# Altium footprint library Varistor.PcbLib: 102 footprints (part 6 of 7)
Each footprint in its own frame and in the unit in brackets; x right, y up, seen from the top. Pads: shape width x height; smd on the part's side, far side on the other; paste and mask are expansions set on the pad; w line width, h text height; cw(c..) or ccw(c..) is an arc to the next point about the centre after c.
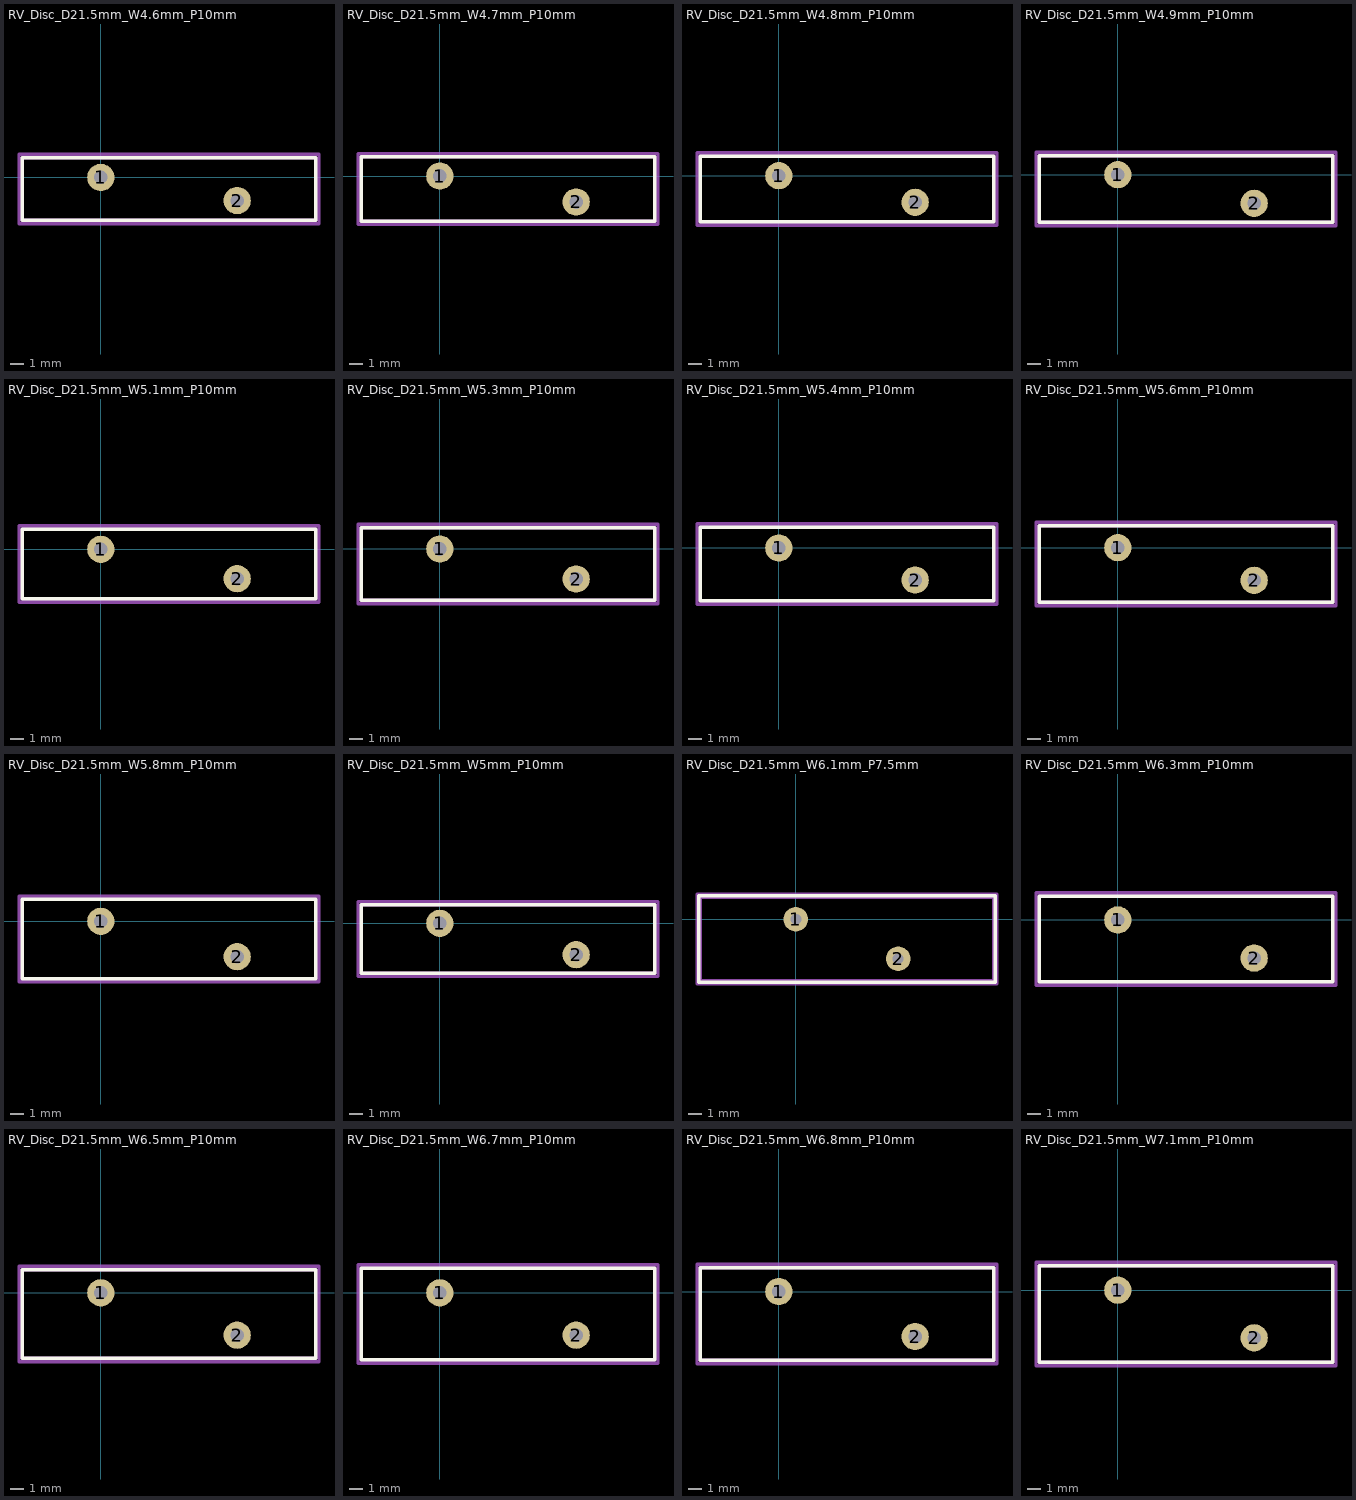
[diagram p5: the footprints below, top view; thin cyan lines are the x and y axes]

## RV_Disc_D21.5mm_W4.6mm_P10mm [mm]
pads (2):
  round 2 hole 1: 1(0,0) 2(10,-1.7)
F.SilkS:
  lines w0.254: -5.75,-3.15 -5.75,1.45 15.75,1.45 15.75,-3.15 -5.75,-3.15
F.Fab:
  lines w0.254: -5.75,-3.15 -5.75,1.45 15.75,1.45 15.75,-3.15 -5.75,-3.15
  text "'.Designator'" at 0.953,-1.69 h1
F.CrtYd:
  lines w0.254: -6,-3.4 -6,1.7 16,1.7 16,-3.4 -6,-3.4
3D body "RV_Disc_D21.5mm_W4.6mm_P10mm.step": height 21.53, standoff -3, extent -5.75,-3.15 15.75,1.45

## RV_Disc_D21.5mm_W4.7mm_P10mm [mm]
pads (2):
  round 2 hole 1: 1(0,0) 2(10,-1.9)
F.SilkS:
  lines w0.254: -5.75,-3.3 -5.75,1.4 15.75,1.4 15.75,-3.3 -5.75,-3.3
F.Fab:
  lines w0.254: -5.75,-3.3 -5.75,1.4 15.75,1.4 15.75,-3.3 -5.75,-3.3
  text "'.Designator'" at 0.953,-1.79 h1
F.CrtYd:
  lines w0.254: -6,-3.55 -6,1.65 16,1.65 16,-3.55 -6,-3.55
3D body "RV_Disc_D21.5mm_W4.7mm_P10mm.step": height 21.53, standoff -3, extent -5.75,-3.3 15.75,1.4

## RV_Disc_D21.5mm_W4.8mm_P10mm [mm]
pads (2):
  round 2 hole 1: 1(0,0) 2(10,-1.95)
F.SilkS:
  lines w0.254: -5.75,-3.375 -5.75,1.425 15.75,1.425 15.75,-3.375 -5.75,-3.375
F.Fab:
  lines w0.254: -5.75,-3.375 -5.75,1.425 15.75,1.425 15.75,-3.375 -5.75,-3.375
  text "'.Designator'" at 0.953,-1.815 h1
F.CrtYd:
  lines w0.254: -6,-3.63 -6,1.68 16,1.68 16,-3.63 -6,-3.63
3D body "RV_Disc_D21.5mm_W4.8mm_P10mm.step": height 21.53, standoff -3, extent -5.75,-3.375 15.75,1.425

## RV_Disc_D21.5mm_W4.9mm_P10mm [mm]
pads (2):
  round 2 hole 1: 1(0,0) 2(10,-2.1)
F.SilkS:
  lines w0.254: -5.75,-3.5 -5.75,1.4 15.75,1.4 15.75,-3.5 -5.75,-3.5
F.Fab:
  lines w0.254: -5.75,-3.5 -5.75,1.4 15.75,1.4 15.75,-3.5 -5.75,-3.5
  text "'.Designator'" at 0.953,-1.89 h1
F.CrtYd:
  lines w0.254: -6,-3.75 -6,1.65 16,1.65 16,-3.75 -6,-3.75
3D body "RV_Disc_D21.5mm_W4.9mm_P10mm.step": height 21.53, standoff -3, extent -5.75,-3.5 15.75,1.4

## RV_Disc_D21.5mm_W5.1mm_P10mm [mm]
pads (2):
  round 2 hole 1: 1(0,0) 2(10,-2.15)
F.SilkS:
  lines w0.254: -5.75,-3.625 15.75,-3.625 15.75,1.475 -5.75,1.475 -5.75,-3.625
F.Fab:
  lines w0.254: -5.75,-3.625 15.75,-3.625 15.75,1.475 -5.75,1.475 -5.75,-3.625
  text "'.Designator'" at 0.953,-1.915 h1
F.CrtYd:
  lines w0.254: -6,-3.88 16,-3.88 16,1.73 -6,1.73 -6,-3.88
3D body "RV_Disc_D21.5mm_W5.1mm_P10mm.step": height 21.53, standoff -3, extent -5.75,-3.625 15.75,1.475

## RV_Disc_D21.5mm_W5.3mm_P10mm [mm]
pads (2):
  round 2 hole 1: 1(0,0) 2(10,-2.2)
F.SilkS:
  lines w0.254: -5.75,-3.75 -5.75,1.55 15.75,1.55 15.75,-3.75 -5.75,-3.75
F.Fab:
  lines w0.254: -5.75,-3.75 -5.75,1.55 15.75,1.55 15.75,-3.75 -5.75,-3.75
  text "'.Designator'" at 0.953,-1.94 h1
F.CrtYd:
  lines w0.254: -6,-4 -6,1.8 16,1.8 16,-4 -6,-4
3D body "RV_Disc_D21.5mm_W5.3mm_P10mm.step": height 21.53, standoff -3, extent -5.75,-3.75 15.75,1.55

## RV_Disc_D21.5mm_W5.4mm_P10mm [mm]
pads (2):
  round 2 hole 1: 1(0,0) 2(10,-2.35)
F.SilkS:
  lines w0.254: -5.75,-3.875 -5.75,1.525 15.75,1.525 15.75,-3.875 -5.75,-3.875
F.Fab:
  lines w0.254: -5.75,-3.875 -5.75,1.525 15.75,1.525 15.75,-3.875 -5.75,-3.875
  text "'.Designator'" at 0.953,-2.015 h1
F.CrtYd:
  lines w0.254: -6,-4.13 -6,1.78 16,1.78 16,-4.13 -6,-4.13
3D body "RV_Disc_D21.5mm_W5.4mm_P10mm.step": height 21.53, standoff -3, extent -5.75,-3.875 15.75,1.525

## RV_Disc_D21.5mm_W5.6mm_P10mm [mm]
pads (2):
  round 2 hole 1: 1(0,0) 2(10,-2.4)
F.SilkS:
  lines w0.254: -5.75,-4 -5.75,1.6 15.75,1.6 15.75,-4 -5.75,-4
F.Fab:
  lines w0.254: -5.75,-4 -5.75,1.6 15.75,1.6 15.75,-4 -5.75,-4
  text "'.Designator'" at 0.953,-2.04 h1
F.CrtYd:
  lines w0.254: -6,-4.25 -6,1.85 16,1.85 16,-4.25 -6,-4.25
3D body "RV_Disc_D21.5mm_W5.6mm_P10mm.step": height 21.53, standoff -3, extent -5.75,-4 15.75,1.6

## RV_Disc_D21.5mm_W5.8mm_P10mm [mm]
pads (2):
  round 2 hole 1: 1(0,0) 2(10,-2.6)
F.SilkS:
  lines w0.254: -5.75,-4.2 -5.75,1.6 15.75,1.6 15.75,-4.2 -5.75,-4.2
F.Fab:
  lines w0.254: -5.75,-4.2 -5.75,1.6 15.75,1.6 15.75,-4.2 -5.75,-4.2
  text "'.Designator'" at 0.953,-2.14 h1
F.CrtYd:
  lines w0.254: -6,-4.45 -6,1.85 16,1.85 16,-4.45 -6,-4.45
3D body "RV_Disc_D21.5mm_W5.8mm_P10mm.step": height 21.53, standoff -3, extent -5.75,-4.2 15.75,1.6

## RV_Disc_D21.5mm_W5mm_P10mm [mm]
pads (2):
  round 2 hole 1: 1(0,0) 2(10,-2.3)
F.SilkS:
  lines w0.254: -5.75,-3.65 -5.75,1.35 15.75,1.35 15.75,-3.65 -5.75,-3.65
F.Fab:
  lines w0.254: -5.75,-3.65 -5.75,1.35 15.75,1.35 15.75,-3.65 -5.75,-3.65
  text "'.Designator'" at 0.953,-1.99 h1
F.CrtYd:
  lines w0.254: -6,-3.9 -6,1.6 16,1.6 16,-3.9 -6,-3.9
3D body "RV_Disc_D21.5mm_W5mm_P10mm.step": height 21.53, standoff -3, extent -5.75,-3.65 15.75,1.35

## RV_Disc_D21.5mm_W6.1mm_P7.5mm [mm]
pads (2):
  round 1.8 hole 0.8: 1(0,0) 2(7.5,-2.9)
F.SilkS:
  lines w0.254: -7.112,-4.635 -7.112,1.714 14.605,1.714 14.605,-4.635 -7.112,-4.635
F.Fab:
  lines w0.254: -7.112,-4.635 -7.112,1.714 14.605,1.714 14.605,-4.635 -7.112,-4.635 ; -7,-4.5 -7,1.6 14.5,1.6 14.5,-4.5 -7,-4.5
  text "'.Designator'" at -0.297,-2.29 h1
F.CrtYd:
  lines w0.254: -7.25,-4.75 -7.25,1.85 14.75,1.85 14.75,-4.75 -7.25,-4.75
3D body "RV_Disc_D21.5mm_W6.1mm_P7.5mm.step": height 21.53, standoff -3, extent -7,-4.5 14.5,1.6

## RV_Disc_D21.5mm_W6.3mm_P10mm [mm]
pads (2):
  round 2 hole 1: 1(0,0) 2(10,-2.8)
F.SilkS:
  lines w0.254: -5.75,-4.55 -5.75,1.75 15.75,1.75 15.75,-4.55 -5.75,-4.55
F.Fab:
  lines w0.254: -5.75,-4.55 -5.75,1.75 15.75,1.75 15.75,-4.55 -5.75,-4.55
  text "'.Designator'" at 0.953,-2.24 h1
F.CrtYd:
  lines w0.254: -6,-4.8 -6,2 16,2 16,-4.8 -6,-4.8
3D body "RV_Disc_D21.5mm_W6.3mm_P10mm.step": height 21.53, standoff -3, extent -5.75,-4.55 15.75,1.75

## RV_Disc_D21.5mm_W6.5mm_P10mm [mm]
pads (2):
  round 2 hole 1: 1(0,0) 2(10,-3.1)
F.SilkS:
  lines w0.254: -5.75,-4.8 -5.75,1.7 15.75,1.7 15.75,-4.8 -5.75,-4.8
F.Fab:
  lines w0.254: -5.75,-4.8 -5.75,1.7 15.75,1.7 15.75,-4.8 -5.75,-4.8
  text "'.Designator'" at 0.953,-2.39 h1
F.CrtYd:
  lines w0.254: -6,-5.05 -6,1.95 16,1.95 16,-5.05 -6,-5.05
3D body "RV_Disc_D21.5mm_W6.5mm_P10mm.step": height 21.53, standoff -3, extent -5.75,-4.8 15.75,1.7

## RV_Disc_D21.5mm_W6.7mm_P10mm [mm]
pads (2):
  round 2 hole 1: 1(0,0) 2(10,-3.1)
F.SilkS:
  lines w0.254: -5.75,-4.9 -5.75,1.8 15.75,1.8 15.75,-4.9 -5.75,-4.9
F.Fab:
  lines w0.254: -5.75,-4.9 -5.75,1.8 15.75,1.8 15.75,-4.9 -5.75,-4.9
  text "'.Designator'" at 0.953,-2.39 h1
F.CrtYd:
  lines w0.254: -6,-5.15 -6,2.05 16,2.05 16,-5.15 -6,-5.15
3D body "RV_Disc_D21.5mm_W6.7mm_P10mm.step": height 21.53, standoff -3, extent -5.75,-4.9 15.75,1.8

## RV_Disc_D21.5mm_W6.8mm_P10mm [mm]
pads (2):
  round 2 hole 1: 1(0,0) 2(10,-3.3)
F.SilkS:
  lines w0.254: -5.75,-5.05 -5.75,1.75 15.75,1.75 15.75,-5.05 -5.75,-5.05
F.Fab:
  lines w0.254: -5.75,-5.05 -5.75,1.75 15.75,1.75 15.75,-5.05 -5.75,-5.05
  text "'.Designator'" at 0.953,-2.49 h1
F.CrtYd:
  lines w0.254: -6,-5.3 -6,2 16,2 16,-5.3 -6,-5.3
3D body "RV_Disc_D21.5mm_W6.8mm_P10mm.step": height 21.53, standoff -3, extent -5.75,-5.05 15.75,1.75

## RV_Disc_D21.5mm_W7.1mm_P10mm [mm]
pads (2):
  round 2 hole 1: 1(0,0) 2(10,-3.5)
F.SilkS:
  lines w0.254: -5.75,-5.3 -5.75,1.8 15.75,1.8 15.75,-5.3 -5.75,-5.3
F.Fab:
  lines w0.254: -5.75,-5.3 -5.75,1.8 15.75,1.8 15.75,-5.3 -5.75,-5.3
  text "'.Designator'" at 0.953,-2.59 h1
F.CrtYd:
  lines w0.254: -6,-5.55 -6,2.05 16,2.05 16,-5.55 -6,-5.55
3D body "RV_Disc_D21.5mm_W7.1mm_P10mm.step": height 21.53, standoff -3, extent -5.75,-5.3 15.75,1.8